# Altium schematic symbol library connectors.SchLib: 5 symbols
Pins are listed as number, name and electrical type; pins without a type are passive.

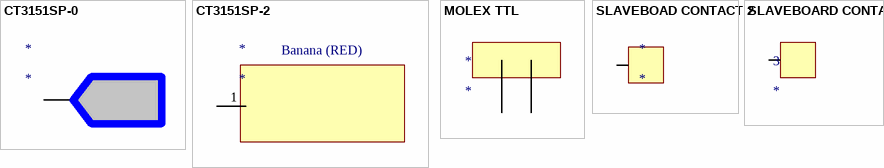
[diagram p0: symbols CT3151SP-0 to SLAVEBOARD CONTACT]

## CT3151SP-0
designator *
Conn 4mm Safety Banana Jack F 1 POS Solder RA Thru-Hole 1 Port Bag; Manufacturer: Cal Test Electronics; Manufacturer Part Number: CT3151SP-0; Body Material: Nylon,Polyamide; Gender: Female; Insulation: Mating End Insulated; Supplier 1: Digi-Key; RoHS: Yes; Category: Connectors; Stock 1: 6317; Pricing 1: 1=2.05000 (USD); Mount: Through Hole,Panel; Color: Black; Contact Plating: Nickel; Contact Material: Brass; Min Operating Temperature: -20°C; Max Operating Temperature: 80°C; Termination: Solder; Packaging: Bulk; ComponentLink1URL: http://www.caltestelectronics.com/images/attachments/P315100rH_drawing.pdf?src-supplier=Digi-Key; ComponentLink1Description: http://www.caltestelectronics.com/images/attachments/P315100rH_drawing.pdf?src-supplier=Digi-Key; Supplier Part Number 1: BKCT3151SP-0-ND
footprint CT3151SP-0
pins: 1

## CT3151SP-2
designator *
Conn 4mm Safety Banana Jack F 1 POS Solder RA Thru-Hole 1 Port Bag; Manufacturer: Cal Test Electronics; Manufacturer Part Number: CT3151SP-2; Body Material: Nylon,Polyamide; Gender: Female; Insulation: Mating End Insulated; Supplier 1: Digi-Key; RoHS: Yes; Category: Connectors; Pricing 1: 1=2.05000 (USD); Mount: Through Hole,Panel; Color: Red; Contact Plating: Nickel; Contact Material: Brass; Min Operating Temperature: -20°C; Max Operating Temperature: 80°C; Termination: Solder; Packaging: Bulk; ComponentLink1URL: http://www.caltestelectronics.com/documents/Cal_Test_Cat_No_23.pdf?src-supplier=Digi-Key; ComponentLink1Description: http://www.caltestelectronics.com/documents/Cal_Test_Cat_No_23.pdf?src-supplier=Digi-Key; Supplier Part Number 1: BKCT3151SP-2-ND
pins: 1
text: Banana (RED)

## MOLEX TTL
designator *
footprint MOLEX TTL
pins: 1, 2

## SLAVEBOAD CONTACT 2
designator *
pins: * 1

## SLAVEBOARD CONTACT
designator 3
footprint SLAVEBOARD CONTACT
pins: 1